# Altium schematic symbol library Filament_Bulb.SchLib: 1 symbol
Pins are listed as number, name and electrical type; pins without a type are passive.

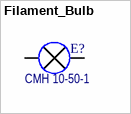
[diagram p0: symbol Filament_Bulb]

## Filament_Bulb
designator E?, comment Наименование: СМН 10-50-1  (hidden comment: Filament bulb)
Сверхминиатюрная лампа накаливания; Назначение: Датчик давления - Сверхминиатюрная лампа накаливания; Потрбление, Вт: 0,2; ComponentLink1Description: DataSheet; ComponentLink1URL: https://static.chipdip.ru/lib/074/DOC000074699.pdf
footprint SMP-10-50-1 (Filament bulb)
pins: 1, 2